# EAGLE library part LM1889 (library tk90)
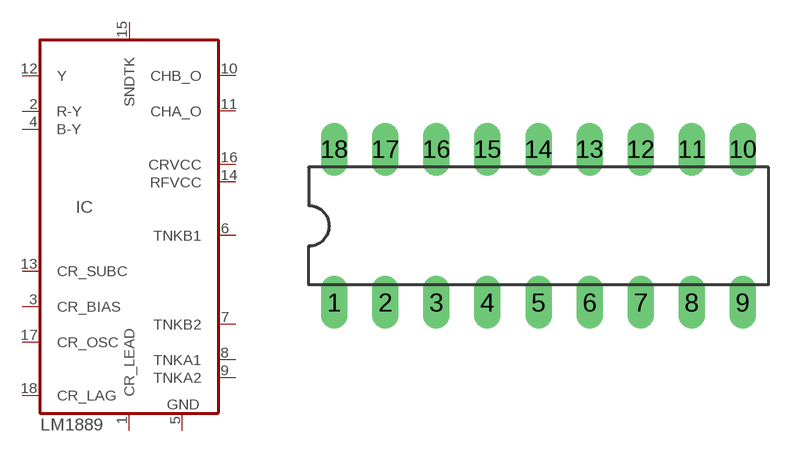
[diagram p16: symbol with the pads of DIL18; footprint DIL18]

Designator prefix IC

## LM1889  [DIL18]
1  CR_LEAD  in
2  R-Y  in
3  CR_BIAS  in
4  B-Y  in
5  GND  pwr
6  TNKB1  out
7  TNKB2  in
8  TNKA1  out
9  TNKA2  in
10  CHB_O  in
11  CHA_O  in
12  Y  in
13  CR_SUBC  in
14  RFVCC  pwr
15  SNDTK  in
16  CRVCC  pwr
17  CR_OSC  in
18  CR_LAG  out

## Footprint DIL18 (pad centres in mm)
Dual In Line Package
drill 0.813 long: 1 -10.16,-3.81; 2 -7.62,-3.81; 3 -5.08,-3.81; 4 -2.54,-3.81; 5 0,-3.81; 6 2.54,-3.81; 7 5.08,-3.81; 8 7.62,-3.81; 9 10.16,-3.81; 10 10.16,3.81; 11 7.62,3.81; 12 5.08,3.81; 13 2.54,3.81; 14 0,3.81; 15 -2.54,3.81; 16 -5.08,3.81; 17 -7.62,3.81; 18 -10.16,3.81